# Altium footprint library SP3485.PcbLib: 1 footprints
Each footprint in its own frame and in the unit in brackets; x right, y up, seen from the top. Pads: shape width x height; smd on the part's side, far side on the other; paste and mask are expansions set on the pad; w line width, h text height; cw(c..) or ccw(c..) is an arc to the next point about the centre after c.
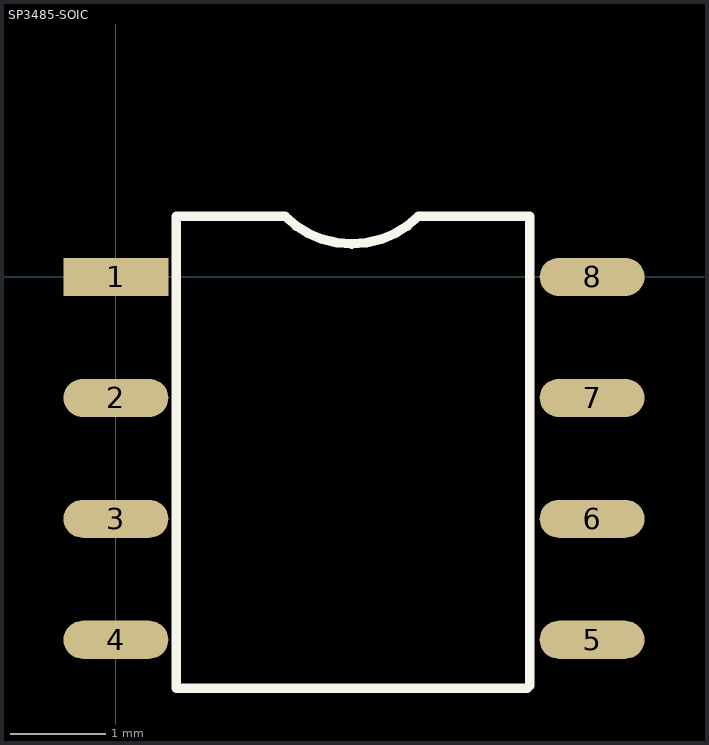
[diagram p0: the footprint, top view; thin cyan lines are the x and y axes]

## SP3485-SOIC [mm]
height 1.4
pads (8):
  rect 1.1x0.4 smd mask+0.05: 1(0,0)
  oval 1.1x0.4 smd mask+0.05: 2(0,-1.27) 3(0,-2.54) 4(0,-3.81) 5(5,-3.81) 6(5,-2.54) 7(5,-1.27) 8(5,0)
Top Overlay:
  lines w0.1: 0.635,-4.318 4.318,-4.318 4.345,-4.291 4.345,0.635 3.175,0.635 cw(c2.476,1.333) 1.778,0.635 0.635,0.635 0.635,0.254 0.635,-4.064 0.635,-4.318